# Altium schematic symbol library BTS6133D.SchLib: 1 symbol
Pins are listed as number, name and electrical type; pins without a type are passive.

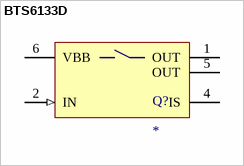
[diagram p0: symbol BTS6133D]

## BTS6133D
designator Q?
INFINEON - BTS6133D - IC, PROFET, P-TO252-5; farnell: 1440811
footprint BTS6133D (INFINEON - BTS6133D - IC, PROFET, P-TO252-5)
pins: 1 OUT, 2 IN (in), 4 IS, 5 OUT, 6 VBB